# Altium footprint library KeyBored_PCB_ThomasLajoie_2025.PcbLib: 20 footprints (part 1 of 2)
Each footprint in its own frame and in the unit in brackets; x right, y up, seen from the top. Pads: shape width x height; smd on the part's side, far side on the other; paste and mask are expansions set on the pad; w line width, h text height; cw(c..) or ccw(c..) is an arc to the next point about the centre after c.
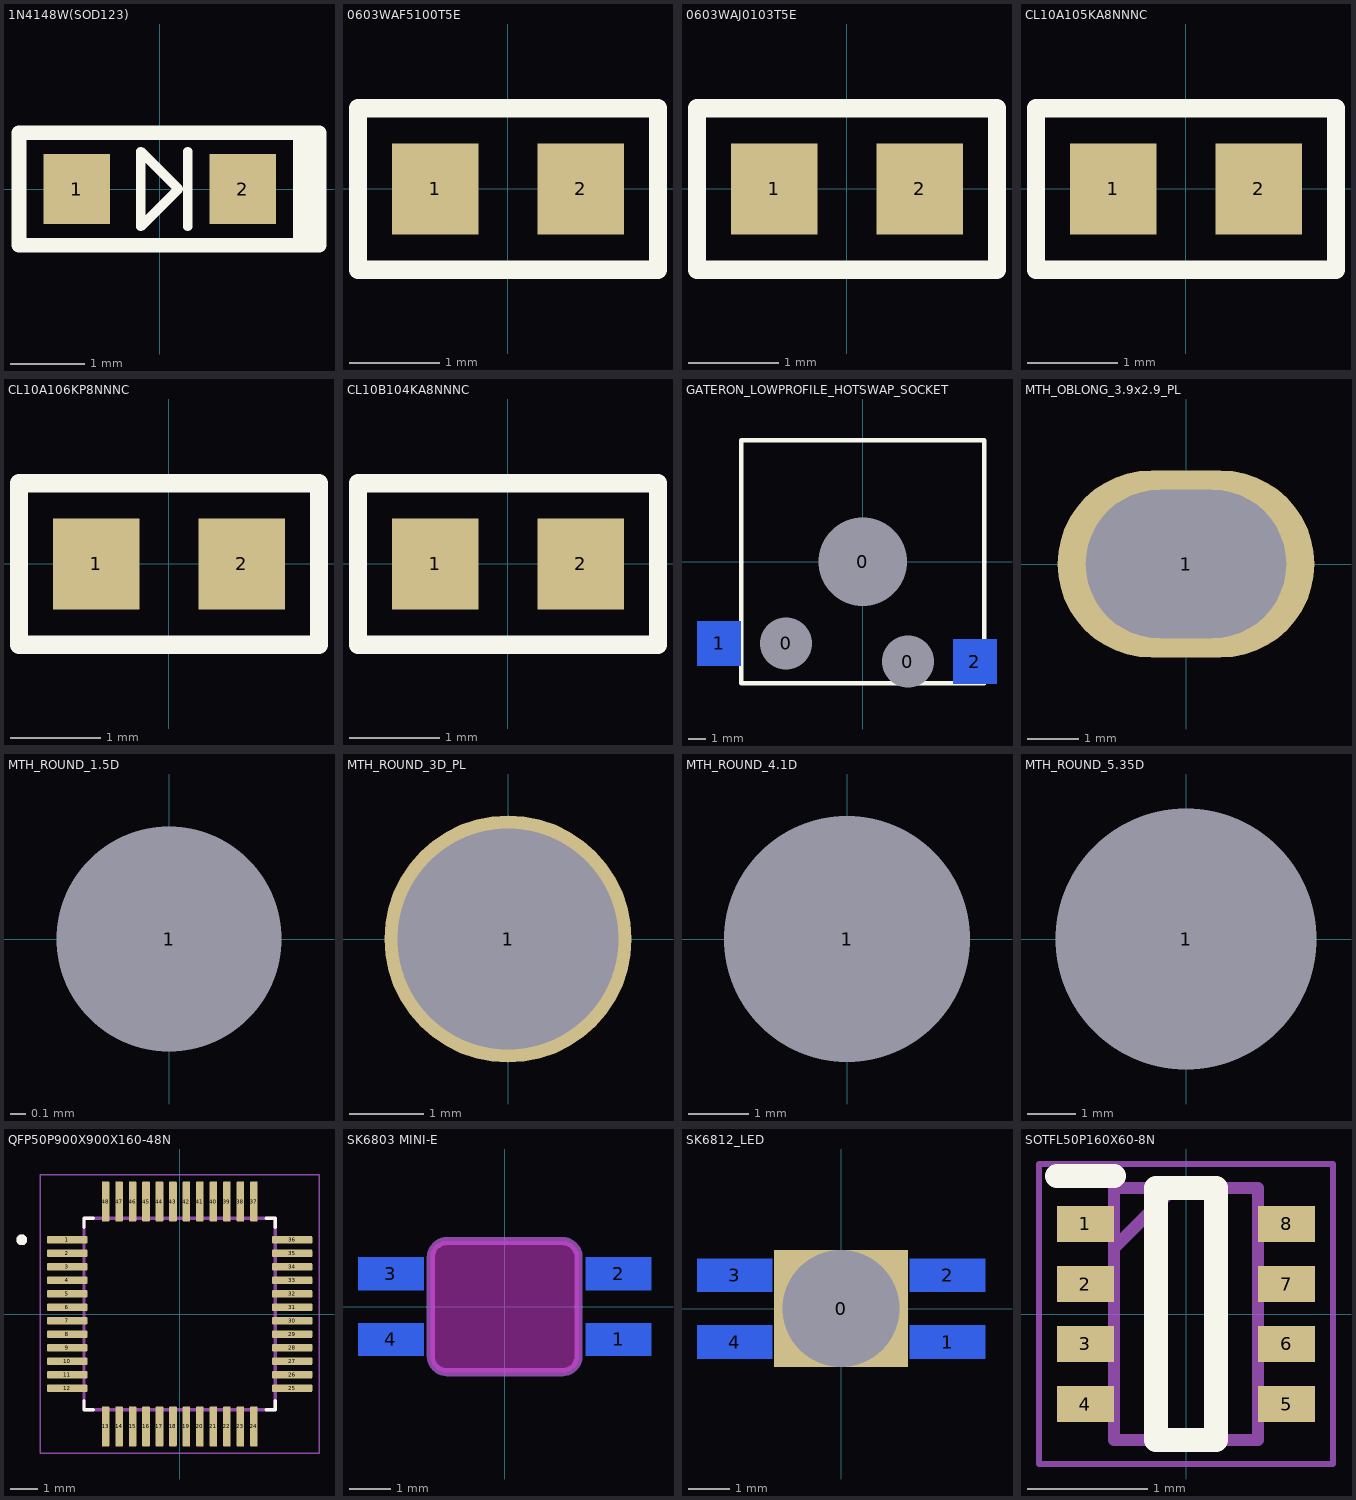
[diagram p0: the footprints below, top view; thin cyan lines are the x and y axes]

## 1N4148W(SOD123) [mm]
pads (2):
  rect 0.9x0.95 smd: 1(-1.125,0) 2(1.125,0)
Top Overlay:
  lines w0.127: 0.381,-0.508 0.381,0.508 ; -0.254,-0.508 -0.254,0.508 0.254,0 -0.254,-0.508
  lines w0.2: 2.032,-0.762 2.032,0.762 ; 1.905,-0.762 -1.905,-0.762 -1.905,0.305 -1.905,0.762 1.905,0.762 ; 1.905,-0.762 1.905,0.762 ; 1.905,-0.762 2.159,-0.762 2.159,0.762 1.905,0.762

## 0603WAF5100T5E [mm]
pads (2):
  rect 0.95x1 smd: 1(-0.8,0) 2(0.8,0)
Top Overlay:
  lines w0.2: -1.651,-0.889 1.651,-0.889 1.651,0.889 -1.651,0.889 -1.651,-0.889

## 0603WAJ0103T5E [mm]
pads (2):
  rect 0.95x1 smd: 1(-0.8,0) 2(0.8,0)
Top Overlay:
  lines w0.2: -1.651,-0.889 1.651,-0.889 1.651,0.889 -1.651,0.889 -1.651,-0.889

## CL10A105KA8NNNC [mm]
pads (2):
  rect 0.95x1 smd: 1(-0.8,0) 2(0.8,0)
Top Overlay:
  lines w0.2: -1.651,-0.889 -1.651,0.889 1.651,0.889 1.651,-0.889 -1.651,-0.889

## CL10A106KP8NNNC [mm]
pads (2):
  rect 0.95x1 smd: 1(-0.8,0) 2(0.8,0)
Top Overlay:
  lines w0.2: -1.651,-0.889 1.651,-0.889 1.651,0.889 -1.651,0.889 -1.651,-0.889

## CL10B104KA8NNNC [mm]
pads (2):
  rect 0.95x1 smd: 1(-0.8,0) 2(0.8,0)
Top Overlay:
  lines w0.2: -1.651,-0.889 -1.651,0.889 1.651,0.889 1.651,-0.889 -1.651,-0.889

## GATERON_LOWPROFILE_HOTSWAP_SOCKET [mm]
pads (5):
  round 1.524 hole 3 unplated: 0(-4.4,-4.7) 0(2.6,-5.75)
  round 1.524 hole 5.1 unplated: 0(0,0)
  rect 2.5x2.55 smd far side: 1(-8.255,-4.7) 2(6.455,-5.75)
Top Overlay:
  lines w0.254: -6.985,-6.985 6.985,-6.985 6.985,6.985 -6.985,6.985 -6.985,-6.985
  text ".Comment" at 0,-8.382 h1.02
  text ".Designator" at 3.429,-2.286 h1.02
3D body "ks-2p02b01-02.stp": height -0.09, standoff -3.09, extent -8.439,-7.934 6.661,-2.54

## MTH_OBLONG_3.9x2.9_PL [mm]
pads (1):
  oval 5x3.65 hole 2.9 slot 3.9 at 0 deg: 1(0,0)
Bottom Overlay:
  lines w0.254: -2.921,0 cw(c-0.762,0) -0.762,2.159 0.762,2.159 cw(c0.762,0) 2.921,0 cw(c0.762,0) 0.762,-2.159 -0.762,-2.159 cw(c-0.762,0) -2.921,0

## MTH_ROUND_1.5D [mm]
pads (1):
  round 1 hole 1.5 unplated: 1(0,0)
Bottom Overlay:
  circle w0.254: c0,0 r1

## MTH_ROUND_3D_PL [mm]
pads (1):
  round 3.35 hole 3: 1(0,0)
Bottom Overlay:
  circle w0.254: c0,0 r2.032

## MTH_ROUND_4.1D [mm]
pads (1):
  round 3.5 hole 4.1 unplated: 1(0,0)
Bottom Overlay:
  circle w0.254: c0,0 r2.5

## MTH_ROUND_5.35D [mm]
pads (1):
  round 5 hole 5.35 unplated: 1(0,0)
Bottom Overlay:
  circle w0.254: c0,0 r3.072

## QFP50P900X900X160-48N [mm]
pads (48):
  rrect25% 1.49x0.28 smd: 1(-4.17,2.75) 2(-4.17,2.25) 3(-4.17,1.75) 4(-4.17,1.25) 5(-4.17,0.75) 6(-4.17,0.25) 7(-4.17,-0.25) 8(-4.17,-0.75) 9(-4.17,-1.25) 10(-4.17,-1.75) 11(-4.17,-2.25) 12(-4.17,-2.75) 25(4.17,-2.75) 26(4.17,-2.25) 27(4.17,-1.75) 28(4.17,-1.25) 29(4.17,-0.75) 30(4.17,-0.25) 31(4.17,0.25) 32(4.17,0.75) 33(4.17,1.25) 34(4.17,1.75) 35(4.17,2.25) 36(4.17,2.75)
  rrect25% 0.28x1.49 smd: 13(-2.75,-4.17) 14(-2.25,-4.17) 15(-1.75,-4.17) 16(-1.25,-4.17) 17(-0.75,-4.17) 18(-0.25,-4.17) 19(0.25,-4.17) 20(0.75,-4.17) 21(1.25,-4.17) 22(1.75,-4.17) 23(2.25,-4.17) 24(2.75,-4.17) 37(2.75,4.17) 38(2.25,4.17) 39(1.75,4.17) 40(1.25,4.17) 41(0.75,4.17) 42(0.25,4.17) 43(-0.25,4.17) 44(-0.75,4.17) 45(-1.25,4.17) 46(-1.75,4.17) 47(-2.25,4.17) 48(-2.75,4.17)
Top Overlay:
  circle w0.2: c-5.86,2.75 r0.1
  lines w0.127: -3.55,-3.21 -3.55,-3.55 -3.21,-3.55 ; -3.55,3.21 -3.55,3.55 -3.21,3.55 ; 3.21,-3.55 3.55,-3.55 3.55,-3.21 ; 3.21,3.55 3.55,3.55 3.55,3.21
Mechanical 13:
  circle w0.2: c-5.86,2.75 r0.1
  lines w0.127: -3.55,-3.55 3.55,-3.55 3.55,3.55 -3.55,3.55 -3.55,-3.55
Mechanical 15:
  lines w0.05: -5.165,-5.165 5.165,-5.165 5.165,5.165 -5.165,5.165 -5.165,-5.165
3D body "step_temp.STEP": height 1.59, standoff -0.01, extent -4.5,-4.5 4.5,4.5

## SK6803 MINI-E [mm]
pads (4):
  rect 1.6x0.8 smd far side: 1(2.775,-0.8) 2(2.775,0.8) 3(-2.775,0.8) 4(-2.775,-0.8)
Bottom Overlay:
  circle w0.254: c3.556,-1.778 r0.18
  text "GND" at 5.969,-1.27 h0.89
  text "DIN" at 5.842,0.381 h0.89
  text "DOUT" at -3.556,-1.27 h0.89
  text "VDD" at -3.556,0.381 h0.89
  text ".Designator" at 1.778,2.028 h0.89
Keep-Out Layer:
  board cut-out: -1.8,-1.2 -1.8,1.2 -1.8,1.28 -1.739,1.427 -1.627,1.539 -1.48,1.6 -1.4,1.6 1.4,1.6 1.48,1.6 1.627,1.539 1.739,1.427 1.8,1.28 1.8,1.2 1.8,-1.2 1.8,-1.28 1.739,-1.427 1.627,-1.539 1.48,-1.6 1.4,-1.6 -1.4,-1.6 -1.48,-1.6 -1.627,-1.539 -1.739,-1.427 -1.8,-1.28
Mechanical 13:
  lines w0.2: -1.8,-1.2 ccw(c-1.4,-1.2) -1.4,-1.6 0,-1.6 1.4,-1.6 ccw(c1.4,-1.2) 1.8,-1.2 1.8,1.2 ccw(c1.4,1.2) 1.4,1.6 -1.4,1.6 ccw(c-1.4,1.2) -1.8,1.2 -1.8,-1.2
3D body: height 0, standoff -0.94, extent -1.6,-1.4 1.6,1.4

## SK6812_LED [mm]
pads (5):
  rect 3.2x2.8 / inner round 1.524 / far side rect 3.2x2.8 hole 2.8 square unplated: 0(0,0)
  rect 1.8x0.8 smd far side: 1(2.55,-0.8) 2(2.55,0.8) 3(-2.55,0.8) 4(-2.55,-0.8)
Bottom Overlay:
  circle w0.254: c3.556,-1.778 r0.18
  text "GND" at 5.969,-1.27 h0.89
  text "DIN" at 5.842,0.381 h0.89
  text "DOUT" at -3.556,-1.27 h0.89
  text "VDD" at -3.556,0.381 h0.89
  text ".Designator" at 1.778,1.778 h0.89

## SOTFL50P160X60-8N [mm]
pads (8):
  rect 0.475x0.3 smd: 1(-0.838,0.75) 2(-0.838,0.25) 3(-0.838,-0.25) 4(-0.838,-0.75) 5(0.838,-0.75) 6(0.838,-0.25) 7(0.838,0.25) 8(0.838,0.75)
Top Overlay:
  lines w0.2: -1.075,1.15 -0.6,1.15 ; -0.25,-1.05 0.25,-1.05 0.25,1.05 -0.25,1.05 -0.25,-1.05
Mechanical 13:
  lines w0.1: -0.6,0.55 -0.1,1.05 ; -0.6,-1.05 0.6,-1.05 0.6,1.05 -0.6,1.05 -0.6,-1.05
Mechanical 15:
  lines w0.05: -1.225,-1.25 1.225,-1.25 1.225,1.25 -1.225,1.25 -1.225,-1.25
3D body "MP2393GTL-Z.stp": height 0.6, standoff 0, extent -0.8,-1.05 0.8,1.05